# Altium schematic symbol library Varistor.SchLib: 1 symbol
Pins are listed as number, name and electrical type; pins without a type are passive.

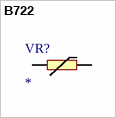
[diagram p0: symbol B722]

## B722
designator VR?
Varistor 1 Circuit Through Hole Disc; Manufacturer 1: EPCOS - TDK Electronics; Manufacturer Part Number 1: *; Value: *
footprint B72214S0301K101 (470 V 4.5 kA Varistor 1 Circuit Through Hole Disc 14mm)
pins: 1, 2